# EAGLE library part 79109-46 (library con-molex-milli-grid)
RECEPTACAL
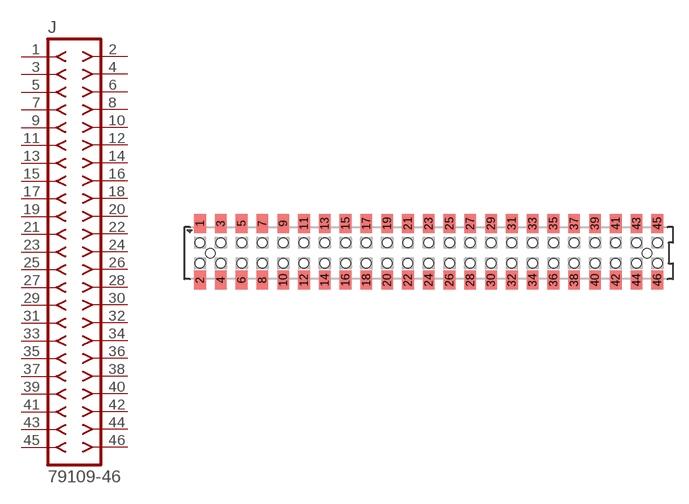
[diagram p180: symbol with the pads of 79109-46; footprint 79109-46]

Designator prefix J

## 79109-46  [79109-46]
1  1  pas
2  2  pas
3  3  pas
4  4  pas
5  5  pas
6  6  pas
7  7  pas
8  8  pas
9  9  pas
10  10  pas
11  11  pas
12  12  pas
13  13  pas
14  14  pas
15  15  pas
16  16  pas
17  17  pas
18  18  pas
19  19  pas
20  20  pas
21  21  pas
22  22  pas
23  23  pas
24  24  pas
25  25  pas
26  26  pas
27  27  pas
28  28  pas
29  29  pas
30  30  pas
31  31  pas
32  32  pas
33  33  pas
34  34  pas
35  35  pas
36  36  pas
37  37  pas
38  38  pas
39  39  pas
40  40  pas
41  41  pas
42  42  pas
43  43  pas
44  44  pas
45  45  pas
46  46  pas

## Footprint 79109-46 (pad centres in mm)
RECEPTACAL SMD Dual Row, Vertical, Pass-Thru
smd 1.12 x 1.83: 1 -22,2.85; 2 -22,-2.6; 3 -20,2.85; 4 -20,-2.6; 5 -18,2.85; 6 -18,-2.6; 7 -16,2.85; 8 -16,-2.6; 9 -14,2.85; 10 -14,-2.6; 11 -12,2.85; 12 -12,-2.6; 13 -10,2.85; 14 -10,-2.6; 15 -8,2.85; 16 -8,-2.6; 17 -6,2.85; 18 -6,-2.6; 19 -4,2.85; 20 -4,-2.6; 21 -2,2.85; 22 -2,-2.6; 23 0,2.85; 24 0,-2.6; 25 2,2.85; 26 2,-2.6; 27 4,2.85; 28 4,-2.6; 29 6,2.85; 30 6,-2.6; 31 8,2.85; 32 8,-2.6; 33 10,2.85; 34 10,-2.6; 35 12,2.85; 36 12,-2.6; 37 14,2.85; 38 14,-2.6; 39 16,2.85; 40 16,-2.6; 41 18,2.85; 42 18,-2.6; 43 20,2.85; 44 20,-2.6; 45 22,2.85; 46 22,-2.6
hole 0.914 at -21,0
hole 0.914 at -22,1
hole 0.914 at -22,-1
hole 0.914 at -20,-1
hole 0.914 at -20,1
hole 0.914 at -18,-1
hole 0.914 at -18,1
hole 0.914 at -16,1
hole 0.914 at -16,-1
hole 0.914 at -14,1
hole 0.914 at -14,-1
hole 0.914 at -12,1
hole 0.914 at -12,-1
hole 0.914 at -10,1
hole 0.914 at -10,-1
hole 0.914 at -8,-1
hole 0.914 at -8,1
hole 0.914 at -6,1
hole 0.914 at -6,-1
hole 0.914 at -4,1
hole 0.914 at -4,-1
hole 0.914 at -2,1
hole 0.914 at -2,-1
hole 0.914 at 0,-1
hole 0.914 at 0,1
hole 0.914 at 2,1
hole 0.914 at 4,1
hole 0.914 at 6,1
hole 0.914 at 2,-1
hole 0.914 at 4,-1
hole 0.914 at 6,-1
hole 0.914 at 8,-1
hole 0.914 at 10,-1
hole 0.914 at 12,-1
hole 0.914 at 14,-1
hole 0.914 at 16,-1
hole 0.914 at 8,1
hole 0.914 at 10,1
hole 0.914 at 12,1
hole 0.914 at 14,1
hole 0.914 at 16,1
hole 0.914 at 18,-1
hole 0.914 at 20,-1
hole 0.914 at 18,1
hole 0.914 at 20,1
hole 0.914 at 22,1
hole 0.914 at 22,-1
hole 0.914 at 21,0